# Altium schematic symbol library TLSR8258_Module.SCHLIB: 55 symbols
Pins are listed as number, name and electrical type; pins without a type are passive.

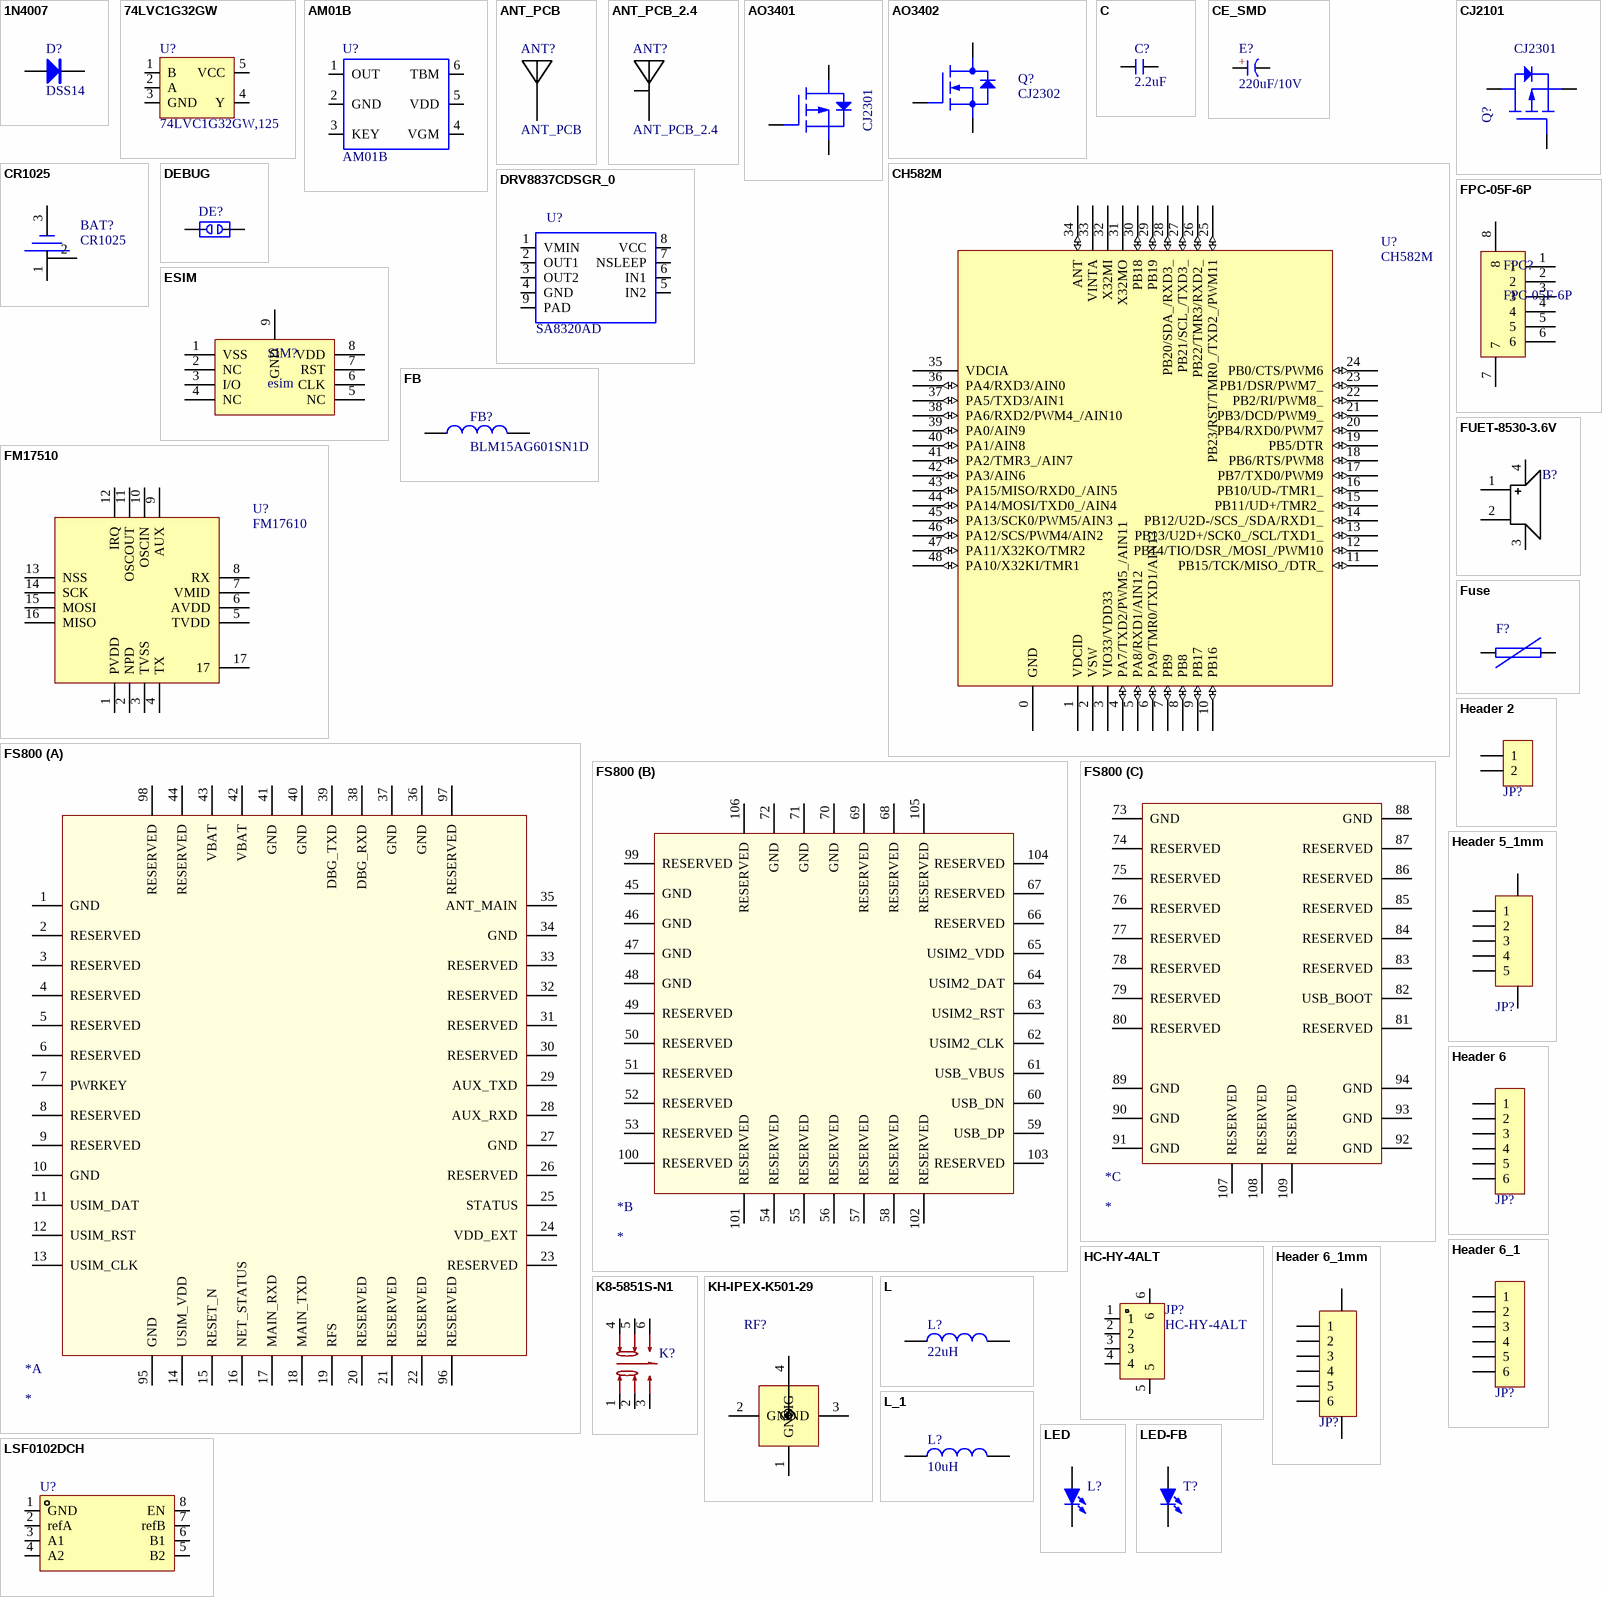
[diagram p0: symbols 1N4007 to LSF0102DCH]

## 1N4007
designator D?, comment DSS14
整流二极管
footprint SOD-123F
footprint SOD-523 (1.2x0.8X0.6mm（长宽高，不包括引脚）)
footprint SOD-323 (1.8x1.3X0.9mm（长宽高，不包括引脚）)
footprint SOD-323_L1.7-W1.3-LS2.5-FD
pins: 1 A, 2 K

## 74LVC1G32GW
designator U?, comment 74LVC1G32GW,125
或门
footprint SOT-353
pins: 1 B, 2 A, 3 GND, 4 Y, 5 VCC

## AM01B
designator U?
电容触摸芯片
footprint SOT23-6N
pins: 1 OUT, 2 GND, 3 KEY, 4 VGM, 5 VDD, 6 TBM

## ANT_PCB
designator ANT?  (no BOM)
PCB板载天线; 嘉立创元件编号: NONE
footprint 2.4GANTF0
footprint 2.4GANTF1
footprint 2.4GANTF2
footprint 2.4GANTF3
footprint 2.4GANTF4
footprint 2.4GANTS0
footprint 2.4GANTS8
footprint 2.4GANTS9
footprint WIFI-ANT
footprint 2.4G_4.3x11.8(TEST)
pins: 1

## ANT_PCB_2.4
designator ANT?  (no BOM)
PCB板载天线; 嘉立创元件编号: NONE
footprint 2.4G_4.3x11.8(TEST)
pins: 1, 2

## AO3401
designator Q?, comment CJ2301
P沟道晶体管
footprint SOT23-3
footprint SOT-323
footprint SOT-23
pins: 1 G, 2 S, 3 D

## AO3402
designator Q?, comment CJ2302
N沟道晶体管
footprint SOT-323
footprint SOT-23
pins: 1 G, 2 S, 3 D

## C
designator C?, comment 2.2uF
贴片电容
footprint C 0201_L (无极性贴片电容)
footprint C 0402_L (无极性贴片电容)
footprint C 0603_L (无极性贴片电容)
footprint C 0805_L (无极性贴片电容)
footprint C 1206_L (无极性贴片电容)
footprint C 1210_L (无极性贴片电容)
footprint C 1808_L (无极性贴片电容)
footprint C 1812_L (无极性贴片电容)
footprint C 1825_L (无极性贴片电容)
footprint C 2225_L (无极性贴片电容)
footprint C 0201_M (无极性贴片电容)
footprint C 0402_M (无极性贴片电容)
footprint C 0603_M (无极性贴片电容)
footprint C 0805_M (无极性贴片电容)
footprint C 1206_M (无极性贴片电容)
footprint C 1210_M (无极性贴片电容)
footprint C 1808_M (无极性贴片电容)
footprint C 1812_M (无极性贴片电容)
footprint C 1825_M (无极性贴片电容)
footprint C 2225_M (无极性贴片电容)
pins: 1, 2

## CE_SMD
designator E?, comment 220uF/10V
贴片电解电容
footprint CM A(3*5.4) (贴片电解电容，直径3mm，高5.4mm)
footprint CM B(4*5.4) (贴片电解电容，直径4mm，高5.4mm)
footprint CM C(5*5.4) (贴片电解电容，直径5mm，高5.4mm)
footprint CM D(6.3*5.4) (贴片电解电容，直径6.3mm，高5.4mm)
footprint CM D(6.3*7.7) (贴片电解电容，直径6.3mm，高7.7mm)
footprint CM E(8*6.2) (贴片电解电容，直径8mm，高6.2mm)
footprint CM E(8*10.2) (贴片电解电容，直径8mm，高10.2mm)
footprint CM F(10*10.2) (贴片电解电容，直径10mm，高10.2mm)
footprint CM G(12.5*13.5) (贴片电解电容，直径12.5mm，高13.5mm)
footprint CM G(12.5*16) (贴片电解电容，直径12.5mm，高16mm)
footprint CM H(16*16.5) (贴片电解电容，直径16mm，高16.5mm)
footprint CM D(6.3*5.8) (贴片电解电容，直径6.3mm，高7.7mm)
pins: 1 A, 2 K
text: +

## CH582M
designator U?
RISC-V MCU with BLE/2*USB/ADC/PWM/SPI/I2C/4*UART
footprint QFN48_5X5
pins: 0 GND (power), 1 VDCID (power), 2 VSW (power), 3 VIO33/VDD33 (power), 4 PA7/TXD2/PWM5_/AIN11 (io), 5 PA8/RXD1/AIN12 (io), 6 PA9/TMR0/TXD1/AIN13 (io), 7 PB9 (io), 8 PB8 (io), 9 PB17 (io), 10 PB16 (io), 11 PB15/TCK/MISO_/DTR_ (io), 12 PB14/TIO/DSR_/MOSI_/PWM10 (io), 13 PB13/U2D+/SCK0_/SCL/TXD1_ (io), 14 PB12/U2D-/SCS_/SDA/RXD1_ (io), 15 PB11/UD+/TMR2_ (io), 16 PB10/UD-/TMR1_ (io), 17 PB7/TXD0/PWM9 (io), 18 PB6/RTS/PWM8 (io), 19 PB5/DTR (io), 20 PB4/RXD0/PWM7 (io), 21 PB3/DCD/PWM9_ (io), 22 PB2/RI/PWM8_ (io), 23 PB1/DSR/PWM7_ (io), 24 PB0/CTS/PWM6 (io), 25 PB23/RST/TMR0_/TXD2_/PWM11 (io), 26 PB22/TMR3/RXD2_ (io), 27 PB21/SCL_/TXD3_ (io), 28 PB20/SDA_/RXD3_ (io), 29 PB19 (io), 30 PB18 (io), 31 X32MO, 32 X32MI, 33 VINTA (power), 34 ANT (io), 35 VDCIA (power), 36 PA4/RXD3/AIN0 (io), 37 PA5/TXD3/AIN1 (io), 38 PA6/RXD2/PWM4_/AIN10 (io), 39 PA0/AIN9 (io), 40 PA1/AIN8 (io), 41 PA2/TMR3_/AIN7 (io), 42 PA3/AIN6 (io), 43 PA15/MISO/RXD0_/AIN5 (io), 44 PA14/MOSI/TXD0_/AIN4 (io), 45 PA13/SCK0/PWM5/AIN3 (io), 46 PA12/SCS/PWM4/AIN2 (io), 47 PA11/X32KO/TMR2 (io), 48 PA10/X32KI/TMR1 (io)

## CJ2101
designator Q?, comment CJ2301
P沟道晶体管
footprint SOT23-3
footprint SOT-323
footprint SOT-23
pins: 1 G, 2 S, 3 D

## CR1025
designator BAT?
内部电池仓
footprint CR1025Base
footprint CR1025Base - duplicate
footprint CR1025-SMD
pins: 1, 2, 3

## DEBUG
designator DE?, comment DEBUG PAD  (value not drawn)  (no BOM)
调试断点焊盘
footprint DEBUG_A (Footprint not found)
footprint DEBUG_B (调试断点焊盘)
pins: 1, 2

## DRV8837CDSGR_0
designator U?, comment SA8320AD
电机驱动芯片
footprint DFN-8_2X2
pins: 1 VMIN, 2 OUT1, 3 OUT2, 4 GND, 5 IN2, 6 IN1, 7 NSLEEP, 8 VCC, 9 PAD

## ESIM
designator SIM?, comment esim
footprint DFN-8_2X2
footprint DFN-8_6X5 (6mm*5mm)
pins: 1 VSS, 2 NC, 3 I/O, 4 NC, 5 NC, 6 CLK, 7 RST, 8 VDD, 9 GND

## FB
designator FB?, comment BLM15AG601SN1D
磁珠
footprint FB 0402
pins: 1, 2

## FM17510
designator U?, comment FM17610
NFC芯片
footprint QFN16 4x4_L (16脚，长x宽x高：4x4x0.8mm，脚距：0.65mm)
pins: 1 PVDD, 2 NPD, 3 TVSS, 4 TX, 5 TVDD, 6 AVDD, 7 VMID, 8 RX, 9 AUX, 10 OSCIN, 11 OSCOUT, 12 IRQ, 13 NSS, 14 SCK, 15 MOSI, 16 MISO, 17

## FPC-05F-6P
designator FPC?
footprint FPC-SMD_6P-P0.50_XUNPU_FPC-05F-6PH20
pins: 1, 2, 3, 4, 5, 6, 7, 8

## FS800
designator *
part A pins: 1 GND, 2 RESERVED, 3 RESERVED, 4 RESERVED, 5 RESERVED, 6 RESERVED, 7 PWRKEY, 8 RESERVED, 9 RESERVED, 10 GND, 11 USIM_DAT, 12 USIM_RST, 13 USIM_CLK, 14 USIM_VDD, 15 RESET_N, 16 NET_STATUS, 17 MAIN_RXD, 18 MAIN_TXD, 19 RFS, 20 RESERVED, 21 RESERVED, 22 RESERVED, 23 RESERVED, 24 VDD_EXT, 25 STATUS, 26 RESERVED, 27 GND, 28 AUX_RXD, 29 AUX_TXD, 30 RESERVED, 31 RESERVED, 32 RESERVED, 33 RESERVED, 34 GND, 35 ANT_MAIN, 36 GND, 37 GND, 38 DBG_RXD, 39 DBG_TXD, 40 GND, 41 GND, 42 VBAT, 43 VBAT, 44 RESERVED, 95 GND, 96 RESERVED, 97 RESERVED, 98 RESERVED
part B pins: 45 GND, 46 GND, 47 GND, 48 GND, 49 RESERVED, 50 RESERVED, 51 RESERVED, 52 RESERVED, 53 RESERVED, 54 RESERVED, 55 RESERVED, 56 RESERVED, 57 RESERVED, 58 RESERVED, 59 USB_DP, 60 USB_DN, 61 USB_VBUS, 62 USIM2_CLK, 63 USIM2_RST, 64 USIM2_DAT, 65 USIM2_VDD, 66 RESERVED, 67 RESERVED, 68 RESERVED, 69 RESERVED, 70 GND, 71 GND, 72 GND, 99 RESERVED, 100 RESERVED, 101 RESERVED, 102 RESERVED, 103 RESERVED, 104 RESERVED, 105 RESERVED, 106 RESERVED
part C pins: 73 GND, 74 RESERVED, 75 RESERVED, 76 RESERVED, 77 RESERVED, 78 RESERVED, 79 RESERVED, 80 RESERVED, 81 RESERVED, 82 USB_BOOT, 83 RESERVED, 84 RESERVED, 85 RESERVED, 86 RESERVED, 87 RESERVED, 88 GND, 89 GND, 90 GND, 91 GND, 92 GND, 93 GND, 94 GND, 107 RESERVED, 108 RESERVED, 109 RESERVED

## FUET-8530-3.6V
designator B?, comment FUET-8530-16R(3.6V)  (value not drawn)
蜂鸣器 2.7kHz; Manufacturer: FUET(福声科技)
footprint FUET-8530-3.6V
pins: 1, 2, 3, 4

## Fuse
designator F?, comment SMD0805B050TF  (value not drawn)
保险丝
footprint F0402
footprint F0805
pins: 1, 2

## HC-HY-4ALT
designator JP?
电源插座
footprint CONN-SMD_4P-P2.00_HCTL_HC-HY-4ALT
pins: 1, 2, 3, 4, 5, 6

## Header 2
designator JP?, comment HDR-1X2  (value not drawn)
2P接插件
footprint MX 1.25-WI-2P (长：4.25mm，宽：1.8mm，高：3.3mm)
footprint MX 1.25-LI-2P (长：4.25mm，宽：3.2mm，高：4.2mm)
footprint MX 1.25-WS-2P (长：7.65mm，宽：4.2mm，高：3.4mm)
footprint MX 1.25-LS-2P (长：7.25m，宽：3.7mm，高：4.7mm)
pins: 1, 2

## Header 5_1mm
designator JP?, comment HDR-1X5  (value not drawn)
5P接插件
footprint CONN-SMD_5P-P1.00_XUNPU_WAFER-SH1.0-5PWB
pins: 1, 2, 3, 4, 5, 6, 7

## Header 6
designator JP?, comment HDR-1X6  (value not drawn)  (no BOM)
6P接插件
footprint HDR2.54-LI-6P (排针，6脚)
pins: 1, 2, 3, 4, 5, 6

## Header 6_1
designator JP?, comment HDR-1X6  (value not drawn)
6P接插件
footprint MX 1.25-WI-6P (长：9.25mm，宽：1.8mm，高：3.3mm)
footprint MX 1.25-LI-6P (长：9.25mm，宽：3.2mm，高：4.2mm)
footprint MX 1.25-WS-6P (长：12.65mm，宽：4.2mm，高：3.4mm)
footprint MX 1.25-LS-6P (长：12.25m，宽：3.7mm，高：4.7mm)
pins: 1, 2, 3, 4, 5, 6

## Header 6_1mm
designator JP?, comment HDR-1X6  (value not drawn)
6P接插件
footprint SMD-1.0-6P
footprint CONN-SMD_HCTL_HC-1.0-6PWT
pins: 1, 2, 3, 4, 5, 6, 7, 8

## K8-5851S-N1
designator K?  (value not drawn)
防拆开关
footprint SW-SMD_K8-5851S-N1
pins: 1, 2, 3, 4, 5, 6

## KH-IPEX-K501-29
designator RF?  (value not drawn)
Manufacturer: kinghelm(金航标); Add into BOM: yes; Connector Type: 板端; Interface Type: 内针; Number of Ports: 1; Interface Diameter: 2mm; Interface Length/Height: 1.25mm; Frequency-Max: 3GHz; RF Series: IPEX; Impedance: 50Ω; Symbol: KH-IPEX-K501-29; Device: KH-IPEX-K501-29; LCSC Part Name: IPEX 内针; Supplier Part: C411563; Manufacturer Part: KH-IPEX-K501-29; Supplier Footprint: SMD; JLCPCB Part Class: 扩展库; Datasheet: https://atta.szlcsc.com/upload/public/pdf/source/20220620/3534C43453AFDE5147CC743E04DB9A56.pdf; Supplier: LCSC; Convert to PCB: yes; Style: -; Operating Temperature Range: -40℃~+90℃
footprint ANT-SMD_KH-IPEX-K501-29
pins: 1 GND, 2 GND, 3 GND, 4 SIG

## L
designator L?, comment 22uH
小功率贴片电感
footprint L 0402 (小功率贴片电感)
footprint L 0603 (小功率贴片电感)
footprint L 0805 (小功率贴片电感)
footprint L 1206 (小功率贴片电感)
footprint L 1210 (小功率贴片电感)
footprint L 1806 (小功率贴片电感)
footprint L 1812 (小功率贴片电感)
pins: 1, 2

## L_1
designator L?, comment 10uH
小功率贴片电感
footprint L 0402 (小功率贴片电感)
footprint L 0603 (小功率贴片电感)
footprint L 0805 (小功率贴片电感)
footprint L 1206 (小功率贴片电感)
footprint L 1210 (小功率贴片电感)
footprint L 1806 (小功率贴片电感)
footprint L 1812 (小功率贴片电感)
pins: 1, 2

## LED
designator L?
LED
footprint LED0402-RD
pins: 1 K, 2 A

## LED-FB
designator T?, comment XL-3216UWC-FB  (value not drawn)
footprint TOUCH_LED_PAD
footprint TOUCH_LED0805_PAD
footprint TOUCH_LED1206
footprint TOUCH_LED1206_SQ
pins: 2 A, 3 K

## LSF0102DCH
designator U?  (value not drawn)
Manufacturer: Nexperia(安世); Add into BOM: yes; Channel Type: 双向; Voltage - Supply(VCCA): 0V~5V; Number of Circuits: 2; Output Type: 推挽式；开漏; Symbol: LSF0102DCH; Device: LSF0102DCH; LCSC Part Name: LSF0102DCH; Supplier Part: C4363955; Manufacturer Part: LSF0102DCH; Supplier Footprint: VSSOP-8; JLCPCB Part Class: 扩展库; Datasheet: https://atta.szlcsc.com/upload/public/pdf/source/20240726/8520535AC4E142C9768FE898CEAA7126.pdf; Supplier: LCSC; Convert to PCB: yes; Voltage - Supply(VCCB): 0V~5V; Operating Temperature: -40℃~+125℃
footprint VSSOP-8_L2.3-W2.0-P0.50-LS3.1-BL
pins: 1 GND, 2 refA, 3 A1, 4 A2, 5 B2, 6 B1, 7 refB, 8 EN

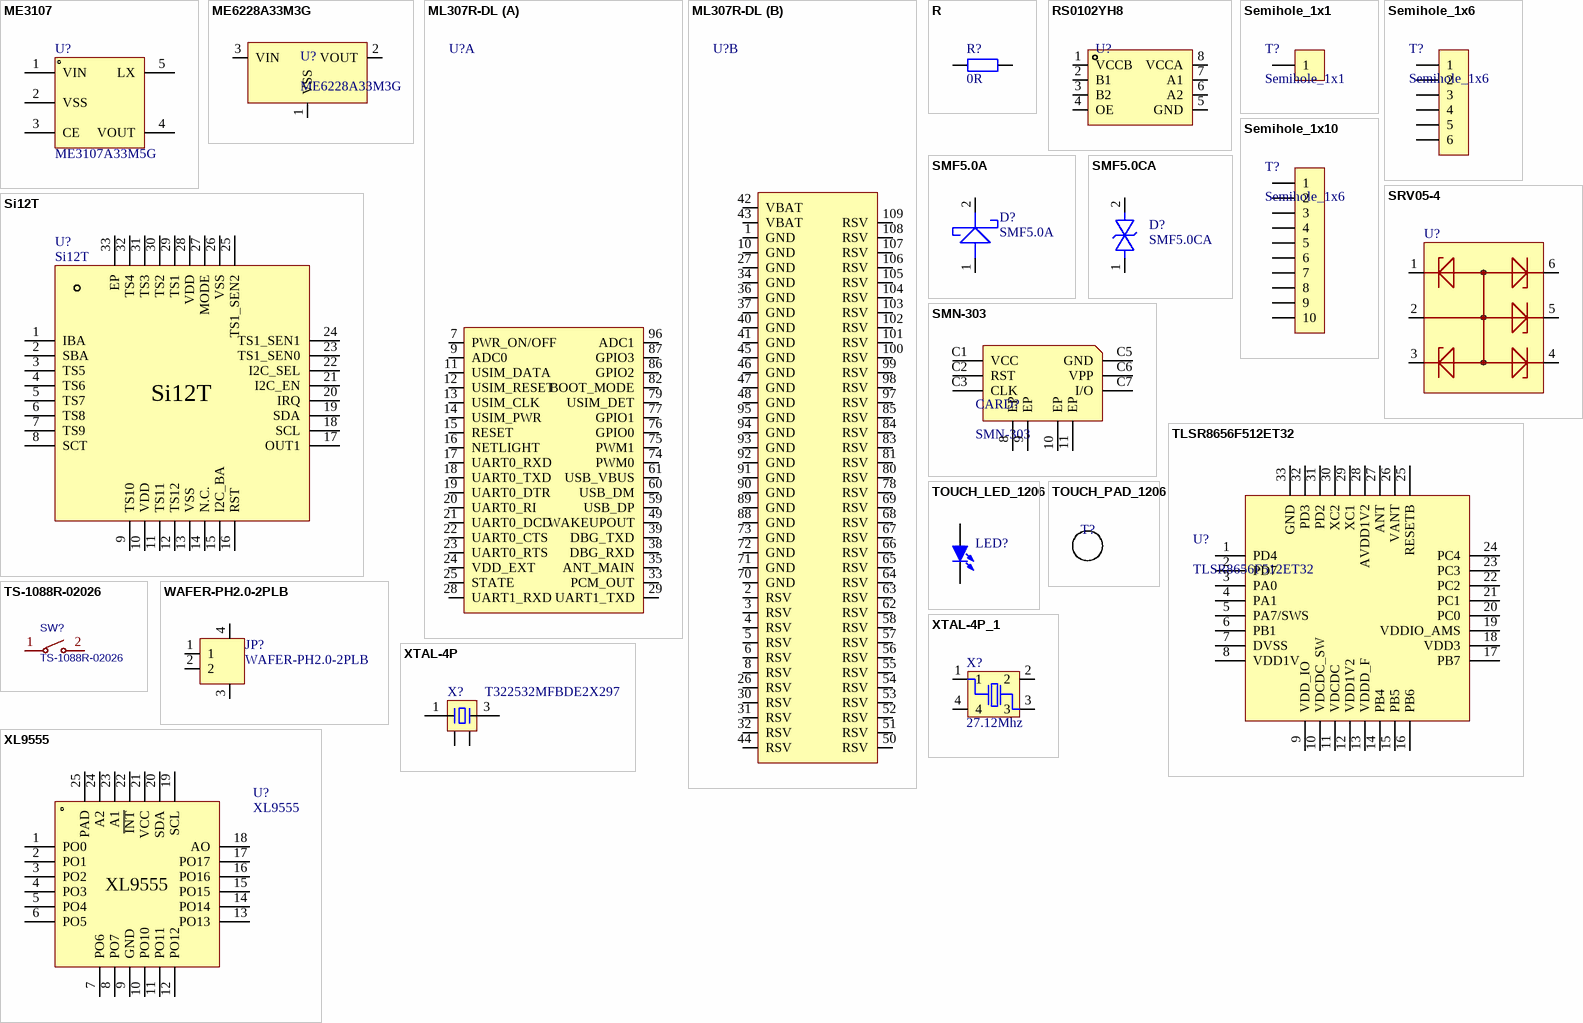
[diagram p1: symbols ME3107 to XTAL-4P_1]

## ME3107
designator U?, comment ME3107A33M5G
DC-DC电源芯片
footprint SOT23-5L (3x1.6x1.1mm(长宽高))
pins: 1 VIN, 2 VSS, 3 CE, 4 VOUT, 5 LX

## ME6228A33M3G
designator U?
footprint SOT-23
pins: 1 VSS, 2 VOUT, 3 VIN

## ML307R-DL
designator U?  (value not drawn)
Manufacturer: Chinamobile(中移物联网); Symbol: ML307R-DL_C48982537; Add into BOM: yes; Device: ML307R-DL_C48982537; LCSC Part Name: ML307R-DL; Supplier Part: C48982537; Manufacturer Part: ML307R-DL; Supplier Footprint: SMD; JLCPCB Part Class: 扩展库; Datasheet: https://item.szlcsc.com/datasheet/ML307R-DL/51313686.html; Supplier: LCSC; Convert to PCB: yes
footprint LCC-LGA-109_L17.7-W15.8-P1.10_MC661
part A pins: 7 PWR_ON/OFF, 9 ADC0, 11 USIM_DATA, 12 USIM_RESET, 13 USIM_CLK, 14 USIM_PWR, 15 RESET, 16 NETLIGHT, 17 UART0_RXD, 18 UART0_TXD, 19 UART0_DTR, 20 UART0_RI, 21 UART0_DCD, 22 UART0_CTS, 23 UART0_RTS, 24 VDD_EXT, 25 STATE, 28 UART1_RXD, 29 UART1_TXD, 33 PCM_OUT, 35 ANT_MAIN, 38 DBG_RXD, 39 DBG_TXD, 49 WAKEUPOUT, 59 USB_DP, 60 USB_DM, 61 USB_VBUS, 74 PWM0, 75 PWM1, 76 GPIO0, 77 GPIO1, 79 USIM_DET, 82 BOOT_MODE, 86 GPIO2, 87 GPIO3, 96 ADC1
part B pins: 1 GND, 2 RSV, 3 RSV, 4 RSV, 5 RSV, 6 RSV, 8 RSV, 10 GND, 26 RSV, 27 GND, 30 RSV, 31 RSV, 32 RSV, 34 GND, 36 GND, 37 GND, 40 GND, 41 GND, 42 VBAT, 43 VBAT, 44 RSV, 45 GND, 46 GND, 47 GND, 48 GND, 50 RSV, 51 RSV, 52 RSV, 53 RSV, 54 RSV, 55 RSV, 56 RSV, 57 RSV, 58 RSV, 62 RSV, 63 RSV, 64 RSV, 65 RSV, 66 RSV, 67 RSV, 68 RSV, 69 RSV, 70 GND, 71 GND, 72 GND, 73 GND, 78 RSV, 80 RSV, 81 RSV, 83 RSV, 84 RSV, 85 RSV, 88 GND, 89 GND, 90 GND, 91 GND, 92 GND, 93 GND, 94 GND, 95 GND, 97 RSV, 98 RSV, 99 RSV, 100 RSV, 101 RSV, 102 RSV, 103 RSV, 104 RSV, 105 RSV, 106 RSV, 107 RSV, 108 RSV, 109 RSV

## R
designator R?, comment 0R
贴片电阻
footprint R 0201_L (1/20W贴片电阻)
footprint R 0402_L (1/16W贴片电阻)
footprint R 0603_L (1/10W贴片电阻)
footprint R 0805_L (1/8W贴片电阻)
footprint R 1206_L (1/4W贴片电阻)
footprint R 1210_L (1/3W贴片电阻)
footprint R 1812_L (1/2W贴片电阻)
footprint R 2010_L (3/4W贴片电阻)
footprint R 2512_L (1W贴片电阻)
footprint R 0201_M (1/20W贴片电阻)
footprint R 0402_M (1/16W贴片电阻)
footprint R 0603_M (1/10W贴片电阻)
footprint R 0805_M (1/8W贴片电阻)
footprint R 1206_M (1/4W贴片电阻)
footprint R 1210_M (1/3W贴片电阻)
footprint R 1812_M (1/2W贴片电阻)
footprint R 2010_M (3/4W贴片电阻)
footprint R 2512_M (1W贴片电阻)
pins: 1, 2

## RS0102YH8
designator U?  (value not drawn)
Manufacturer: RUNIC(润石); Add into BOM: yes; Channel Type: 双向; Data Rate: 24Mbps; Voltage - Supply(VCCA): 1.65V~5.5V; Voltage - Supply(VCCB): 2.3V~5.5V; Number of Circuits: 2; Output Type: 推挽式；开漏; Symbol: RS0102YH8; Device: RS0102YH8; LCSC Part Name: 电平转换芯片; Supplier Part: C783414; Manufacturer Part: RS0102YH8; Supplier Footprint: SOT-23-8; JLCPCB Part Class: 扩展库; Datasheet: https://atta.szlcsc.com/upload/public/pdf/source/20200914/C783414_6557205211B20B027C7967DA27FC02D7.pdf; Supplier: LCSC; Convert to PCB: yes; Operating Temperature: -40℃~+85℃
footprint SOT-23-8_L3.0-W1.7-P0.65-LS2.8-BL
pins: 1 VCCB, 2 B1, 3 B2, 4 OE, 5 GND, 6 A2, 7 A1, 8 VCCA

## Semihole_1x1
designator T?
footprint SEMIHOLE_1x1 (半孔，1脚)
pins: 1

## Semihole_1x6
designator T?
footprint SEMIHOLE_1x6 (半孔，6脚)
pins: 1, 2, 3, 4, 5, 6

## Semihole_1x10
designator T?, comment Semihole_1x6
footprint SEMIHOLE_1x10 (半孔，10脚)
pins: 1, 2, 3, 4, 5, 6, 7, 8, 9, 10

## Si12T
designator U?
电容触摸芯片
footprint QFN32 5x5_L (32脚，长：5mm，宽：5mm，高：9.5mm)
pins: 1 IBA, 2 SBA, 3 TS5, 4 TS6, 5 TS7, 6 TS8, 7 TS9, 8 SCT, 9 TS10, 10 VDD, 11 TS11, 12 TS12, 13 VSS, 14 N.C., 15 I2C_BA, 16 RST, 17 OUT1, 18 SCL, 19 SDA, 20 IRQ, 21 I2C_EN, 22 I2C_SEL, 23 TS1_SEN0, 24 TS1_SEN1, 25 TS1_SEN2, 26 VSS, 27 MODE, 28 VDD, 29 TS1, 30 TS2, 31 TS3, 32 TS4, 33 EP

## SMF5.0A
designator D?
瞬态抑制二极管
footprint SOD-123F
footprint SOD-123FL_L2.8-W1.8-LS3.7-BI
pins: 1 A, 2 C

## SMF5.0CA
designator D?
瞬态抑制二极管
footprint SOD-123FL_L2.8-W1.8-LS3.7-BI
pins: 1 A, 2 C

## SMN-303
designator CARD?
footprint SIM-SMD_SMN-303
pins: 8 EP, 9 EP, 10 EP, 11 EP, C1 VCC, C2 RST, C3 CLK, C5 GND, C6 VPP, C7 I/O

## SRV05-4
designator U?  (value not drawn)
Manufacturer: ElecSuper(静芯微); Symbol: SMF05CT1G-ES; Add into BOM: yes; Polarity: 单向; Reverse Stand-Off Voltage (Vrwm): 5V; Clamping Voltage: 15V; Peak Pulse Current (Ipp): 8A; Peak Pulse Power Dissipation (Ppp): 100W; Voltage - Breakdown: 6V; Reverse Leakage Current (Ir): 1uA; Number of Channels: 五路; Device: SMF05CT1G-ES; LCSC Part Name: 5路单向ESD静电防护器件，30kV，CJ：100pF；笔记本/SIM卡/数码相机/仪器仪表多路防护; Supplier Part: C5180312; Manufacturer Part: SMF05CT1G-ES; Supplier Footprint: SOT-363; JLCPCB Part Class: 扩展库; Datasheet: https://atta.szlcsc.com/upload/public/pdf/source/20240905/B425C6D84187C702869E43F2CF0CC28D.pdf; Supplier: LCSC; Convert to PCB: yes; Operating Temperature: -; Type: ESD
footprint SOT23-6N (3x1.6x1.1mm(长宽高))
pins: 1 IO1, 2 GND, 3 IO2, 4 IO3, 5 IO4, 6 IO5

## TLSR8656F512ET32
designator U?
footprint QFN32 5x5_L (32脚，长：5mm，宽：5mm，高：9.5mm)
pins: 1 PD4, 2 PD7, 3 PA0, 4 PA1, 5 PA7/SWS, 6 PB1, 7 DVSS, 8 VDD1V, 9 VDD_IO, 10 VDCDC_SW, 11 VDCDC, 12 VDD1V2, 13 VDDD_F, 14 PB4, 15 PB5, 16 PB6, 17 PB7, 18 VDD3, 19 VDDIO_AMS, 20 PC0, 21 PC1, 22 PC2, 23 PC3, 24 PC4, 25 RESETB, 26 VANT, 27 ANT, 28 AVDD1V2, 29 XC1, 30 XC2, 31 PD2, 32 PD3, 33 GND

## TOUCH_LED_1206
designator LED?, comment XL-3216UWC-FB  (value not drawn)
footprint TOUCH_LED_1206 _FB
pins: 1 K, 2 A

## TOUCH_PAD_1206
designator T?, comment TOUCH_PAD  (value not drawn)  (no BOM)
TOUCH_PAD_1206 => TOUCH_LED_1206
footprint TOUCH_PAD_1206_SQ
pins: 1

## TS-1088R-02026
designator SW?
电路结构:单刀单掷;按钮形状:圆形按钮;作用力:2.6N;安装方式:立贴;开关长度:3.9mm;开关宽度:2.93mm;开关高度:2mm;带支架:不带支架;触点电流:50mA;额定电压:12V;带灯:-;工作寿命:10万次;; Manufacturer: XUNPU(讯普); AddInBom: yes; ModelId: b26698b69f274ffabef8a26c7d0e5dd1聨0819f05c4eef4c71ace90d822a990e87; ModelName: SW-SMD_L3.9-W2.9-H2.0-LS4.8; ModelTransform: 188.976,114.174,0,0,0,0,0,0,0; Circuit: 单刀单掷; Actuator Style: 圆形按钮; Operating Force: 2.6N; Switch Height: 2mm; with Bracket: 不带支架; Contact Current: 50mA; Voltage Rating: 12V; Actuator/Cap Color: 黑色; Life: 10万次; Symbol: TS-1088R-02026; Device: TS-1088R-02026; LCSC Part Name: 3.9*2.93*2mm 立贴 轻触开关; SupplierPart: C455280; ManufacturerPart: TS-1088R-02026; Supplier Footprint: SMD,4x3mm; JLCPCB Part Class: Extended Part; Datasheet: https://item.szlcsc.com/datasheet/TS-1088R-02026/457635.html; Supplier: LCSC; ConvertToPcb: yes; FootprintName: SW-SMD_L3.9-W3.0-P4.45; Mounting Type: 立贴; Length: 3.9mm; Width: 2.93mm; With Lamp: -; Termination Style: SMD接片
footprint SW-SMD_L3.9-W3.0-P4.45
pins: 1, 2

## WAFER-PH2.0-2PLB
designator JP?
电机插座
footprint CONN-TH_2P-P2.00_XUNPU_WAFER-PH2.0-2PLB
pins: 1, 2, 3, 4

## XL9555
designator U?
XL9555内部自带上拉电阻
footprint QFN24 4x4_M (24脚，长x宽x高：4x4x1mm，脚距：0.5mm)
pins: 1 PO0, 2 PO1, 3 PO2, 4 PO3, 5 PO4, 6 PO5, 7 PO6, 8 PO7, 9 GND, 10 PO10, 11 PO11, 12 PO12, 13 PO13, 14 PO14, 15 PO15, 16 PO16, 17 PO17, 18 AO, 19 SCL, 20 SDA, 21 VCC, 22 ~{INT}, 23 A1, 24 A2, 25 PAD

## XTAL-4P
designator X?, comment T322532MFBDE2X297
4脚无源晶振(32M)
footprint OSC 1612-4P (1.6*1.2*0.35mm（长宽高）)
footprint OSC 2025-4P (2*2.5*0.55mm(长宽高))
footprint OSC 3225-4P (3.2*2.5*0.7mm(长宽高))
footprint OSC 4025-4P (4*2.5*0.7mm(长宽高))
footprint OSC 5032-4P (5mm*3.2mm*0.8mm(长*宽*高))
footprint OSC 6035-4P (6mm*3.5mm*1mm(长*宽*高))
footprint OSC 7050-4P (7mm*5mm*1.3mm(长*宽*高))
footprint OSC 8045-4P (8mm*4.5mm*1.6mm(长*宽*高))
footprint OSC 8045-4P-C (8mm*4.5mm*1.8mm(长*宽*高))
pins: 1, 2, 3, 4

## XTAL-4P_1
designator X?, comment 27.12Mhz
4脚无源晶振
footprint OSC 1612-4P (1.6*1.2*0.35mm（长宽高）)
footprint OSC 2025-4P (2*2.5*0.55mm(长宽高))
footprint OSC 3225-4P (3.2*2.5*0.7mm(长宽高))
footprint OSC 4025-4P (4*2.5*0.7mm(长宽高))
footprint OSC 5032-4P (5mm*3.2mm*0.8mm(长*宽*高))
footprint OSC 6035-4P (6mm*3.5mm*1mm(长*宽*高))
footprint OSC 7050-4P (7mm*5mm*1.3mm(长*宽*高))
footprint OSC 8045-4P (8mm*4.5mm*1.6mm(长*宽*高))
footprint OSC 8045-4P-C (8mm*4.5mm*1.8mm(长*宽*高))
pins: 1, 2, 3, 4